# Altium footprint library PcbLib1.PcbLib: 9 footprints
Each footprint in its own frame and in the unit in brackets; x right, y up, seen from the top. Pads: shape width x height; smd on the part's side, far side on the other; paste and mask are expansions set on the pad; w line width, h text height; cw(c..) or ccw(c..) is an arc to the next point about the centre after c.
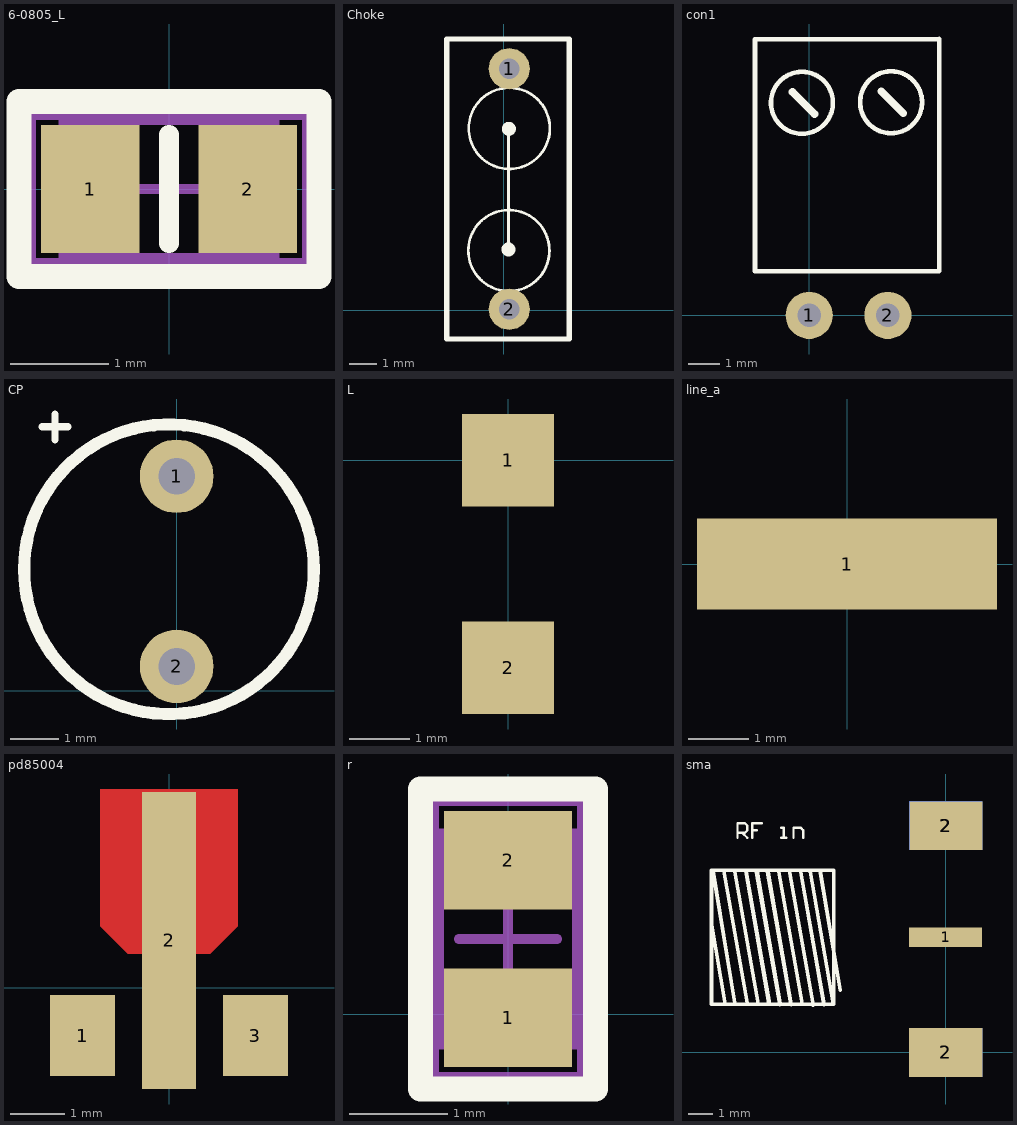
[diagram p0: the footprints below, top view; thin cyan lines are the x and y axes]

## 6-0805_L [mm] "Chip Resistor, Body 2.0x1.2mm, IPC High Density"
height 0.7
pads (2):
  rect 1x1.3 smd: 1(-0.8,0) 2(0.8,0)
Top Overlay:
  lines w0.2: 0,-0.55 0,0.55
  lines w0.254: -1.524,-0.889 -0.254,-0.889 1.524,-0.889 1.524,0.889 -1.524,0.889 -1.524,-0.889
Mechanical 13:
  lines w0.1: -1.075,-0.7 -1.075,0.7 1.075,0.7 1.075,-0.7 -1.075,-0.7
Mechanical 15:
  lines w0.1: -0.5,0 0.5,0 ; 0,-0.5 0,0.5 ; -1.4,-0.75 -1.4,0.75 1.4,0.75 1.4,-0.75 -1.4,-0.75
3D body: height 0.7, standoff 0, extent -1.075,-0.7 1.075,0.7

## Choke [mil]
pads (2):
  round 60 hole 30: 1(8.27,352.09) 2(8.27,1.69)
Top Overlay:
  drawing of 365 lines, arcs and shapes, not listed

## con1 [mil]
pads (2):
  round 60 hole 30: 1(0,0) 2(100,0)
Top Overlay:
  drawing of 186 lines, arcs and shapes, not listed

## CP [mil]
pads (2):
  round 60 hole 30: 1(0,175) 2(0,20)
Top Overlay:
  lines w5.91: -109.76,215.28 -88.78,215.28 ; -99.25,204.76 -99.25,225.75
  lines w10: -124.41,99.21 -124.12,90.97 -123.26,82.77 -121.83,74.66 -119.83,66.66 -117.29,58.82 -114.2,51.17 -110.58,43.76 -106.46,36.62 -101.85,29.79 -96.78,23.29 -91.26,17.17 -85.33,11.44 -79.02,6.14 -72.35,1.29 -65.35,-3.07 -58.08,-6.94 -50.54,-10.3 -42.8,-13.12 -34.87,-15.39 -26.81,-17.1 -18.65,-18.25 -10.42,-18.83 -2.18,-18.83 6.05,-18.25 14.21,-17.1 22.27,-15.39 30.2,-13.12 37.95,-10.3 45.48,-6.94 52.76,-3.07 59.75,1.29 66.42,6.14 72.73,11.44 78.66,17.17 84.18,23.29 89.25,29.79 93.86,36.62 97.99,43.76 101.6,51.17 104.69,58.82 107.24,66.66 109.23,74.66 110.66,82.77 111.52,90.97 111.81,99.21 111.52,107.45 110.66,115.65 109.23,123.77 107.24,131.77 104.69,139.61 101.6,147.25 97.99,154.66 93.86,161.8 89.25,168.64 84.18,175.13 78.66,181.26 72.73,186.99 66.42,192.28 59.75,197.13 52.76,201.5 45.48,205.37 37.95,208.72 30.2,211.54 22.27,213.81 14.21,215.53 6.05,216.68 -2.18,217.25 -10.42,217.25 -18.65,216.68 -26.81,215.53 -34.87,213.81 -42.8,211.54 -50.54,208.72 -58.08,205.37 -65.35,201.5 -72.35,197.13 -79.02,192.28 -85.33,186.99 -91.26,181.26 -96.78,175.13 -101.85,168.64 -106.46,161.8 -110.58,154.66 -114.2,147.25 -117.29,139.61 -119.83,131.77 -121.83,123.77 -123.26,115.65 -124.12,107.45 -124.41,99.21

## L [mil]
pads (2):
  rect 60x60 smd mask+4: 1(0,0) 2(0,-135)

## line_a [mm]
pads (1):
  rect 5x1.524 smd mask+0: 1(0,0)

## pd85004 [mm]
pads (3):
  rect 1.2x1.5 smd mask+0.34: 1(-1.6,-0.881) 3(1.6,-0.881)
  rect 1x5.5 smd mask+0.102: 2(0,0.881)
Top Layer:
  region: 0,3.683 1.27,3.683 1.27,1.143 0.762,0.635 0,0.635
  region: 0,3.683 -1.27,3.683 -1.27,1.143 -0.762,0.635 0,0.635

## r [mm]
pads (2):
  rect 1.3x1 smd: 1(0,-0.038) 2(0,1.562)
Top Overlay:
  lines w0.254: -0.889,-0.762 -0.889,2.286 0.889,2.286 0.889,0.508 0.889,-0.762 -0.889,-0.762
Mechanical 13:
  lines w0.1: -0.7,-0.313 -0.7,1.837 0.7,1.837 0.7,-0.313 -0.7,-0.313
Mechanical 15:
  lines w0.1: -0.5,0.762 0.5,0.762 ; 0,0.262 0,1.262 ; -0.75,-0.638 -0.75,2.162 0.75,2.162 0.75,-0.638 -0.75,-0.638
3D body: height 0.7, standoff 0, extent -0.7,-0.313 0.7,1.837

## sma [mm]
pads (5):
  rect 3x0.8 smd mask+0.101: 1(-0.004,4.719)
  rect 3x2 smd mask+0.101: 2(0,0) 2(0.01,9.3)
  rect 3x2 smd far side mask+0.101: 2(0,0) 2(0,9.307)
Top Overlay:
  lines w0.1: -8.544,8.809 -8.544,9.409 -8.244,9.409 -8.144,9.309 -8.144,9.109 -8.244,9.009 -8.544,9.009 ; -8.344,9.009 -8.144,8.809 ; -7.944,8.809 -7.944,9.109 ; -7.544,9.409 -7.944,9.409 -7.944,9.109 ; -6.745,8.809 -6.545,8.809 -6.645,8.809 -6.645,9.209 -6.745,9.209 ; -6.245,8.809 -6.245,9.209 -5.945,9.209 -5.845,9.109 -5.845,8.809 ; -7.944,9.109 -7.744,9.109 -7.944,9.109
  lines w0.15: -9.613,1.971 -9.613,7.478 -4.613,7.478 ; -9.613,5.345 -9.042,1.971 ; -9.592,1.971 -4.592,1.971 -4.592,7.478 ; -9.55,7.435 -8.656,2.032 ; -9.103,7.456 -8.147,2.032 ; -8.188,7.414 -7.232,1.99 ; -7.762,7.393 -6.806,1.969 ; -7.741,7.435 -6.785,2.011 ; -7.315,7.414 -6.359,1.99 ; -6.4,7.372 -5.444,1.948 ; -5.953,7.393 -4.997,1.969 ; -5.567,7.415 -4.611,1.991 ; -5.161,7.478 -4.328,2.561 ; -8.656,7.414 -7.7,1.99 -8.656,7.414 ; -8.209,7.435 -7.253,2.011 -8.209,7.435 ; -7.294,7.393 -6.338,1.969 -7.294,7.393 ; -6.847,7.414 -5.891,1.99 -6.847,7.414